# Altium footprint library PAL.PcbLib: 271 footprints (part 8 of 17)
Each footprint in its own frame and in the unit in brackets; x right, y up, seen from the top. Pads: shape width x height; smd on the part's side, far side on the other; paste and mask are expansions set on the pad; w line width, h text height; cw(c..) or ccw(c..) is an arc to the next point about the centre after c.
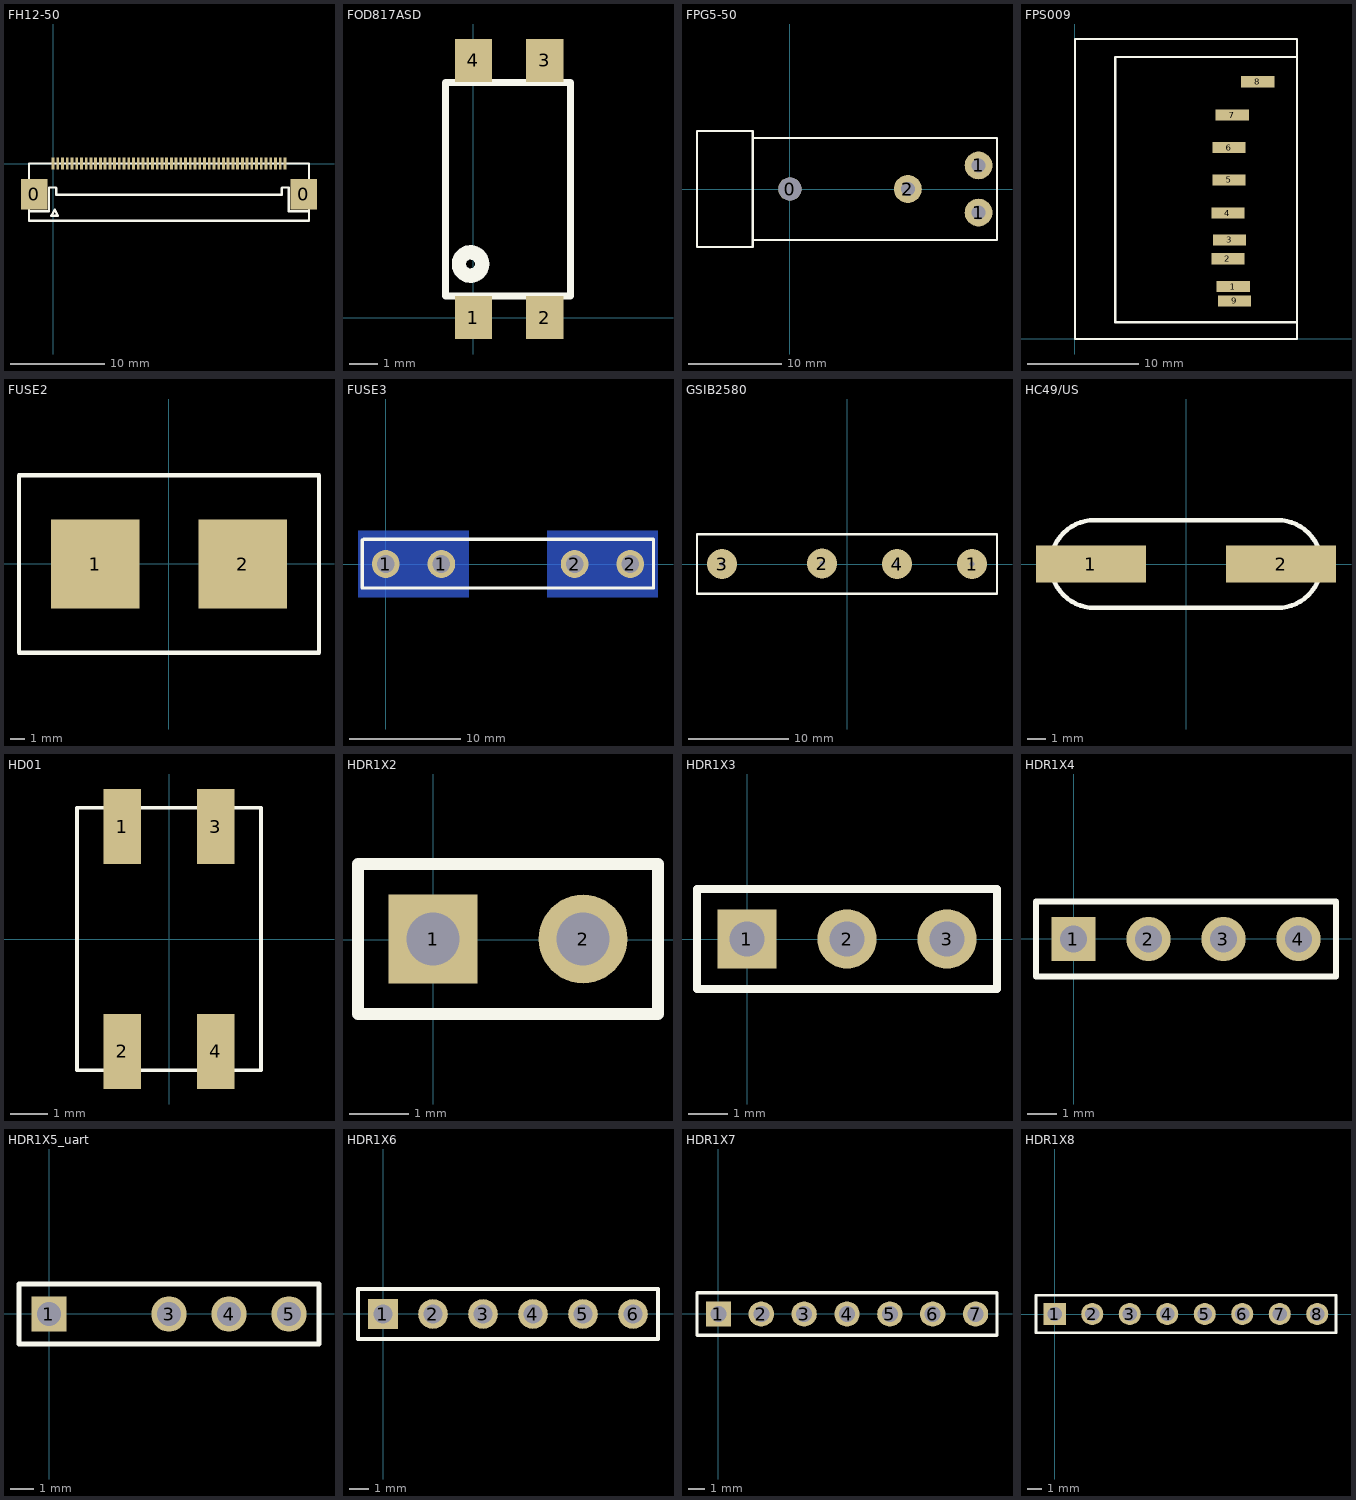
[diagram p7: the footprints below, top view; thin cyan lines are the x and y axes]

## FH12-50 [mm]
pads (52):
  rect 2.8x3.2 smd: 0(-2,-3.25) 0(26.5,-3.25)
  rect 0.3x1.3 smd: 1(0,0) 2(0.5,0) 3(1,0) 4(1.5,0) 5(2,0) 6(2.5,0) 7(3,0) 8(3.5,0) 9(4,0) 10(4.5,0) 11(5,0) 12(5.5,0) 13(6,0) 14(6.5,0) 15(7,0) 16(7.5,0) 17(8,0) 18(8.5,0) 19(9,0) 20(9.5,0) 21(10,0) 22(10.5,0) 23(11,0) 24(11.5,0) 25(12,0) 26(12.5,0) 27(13,0) 28(13.5,0) 29(14,0) 30(14.5,0) 31(15,0) 32(15.5,0) 33(16,0) 34(16.5,0) 35(17,0) 36(17.5,0) 37(18,0) 38(18.5,0) 39(19,0) 40(19.5,0) 41(20,0) 42(20.5,0) 43(21,0) 44(21.5,0) 45(22,0) 46(22.5,0) 47(23,0) 48(23.5,0) 49(24,0) 50(24.5,0)
Top Overlay:
  lines w0.25: -2.525,-5.05 -0.425,-5.05 -0.425,-2.525 0.275,-2.525 0.325,-2.575 0.325,-3.3 24.15,-3.3 24.15,-2.575 ; 24.2,-2.525 24.9,-2.525 24.9,-5.05 27,-5.05 ; -2.55,-6.025 27.05,-6.025 27.05,0 -2.55,0 -2.55,-6.025 ; -0.175,-5.5 0.5,-5.5 0.2,-4.85 -0.175,-5.5

## FOD817ASD [mm]
pads (4):
  rect 1.3x1.5 smd: 1(0,0) 2(2.5,0) 3(2.5,9) 4(0,9)
Top Overlay:
  circle w0.5: c-0.1,1.875 r0.407
  lines w0.25: -0.975,8.225 -0.975,0.75 -0.9,0.75 3.375,0.75 ; -0.95,8.225 3.325,8.225 ; 3.4,0.75 3.4,8.225

## FPG5-50 [mm]
pads (4):
  round 2.5 on Top hole 2.5: 0(0,0)
  round 3 on Top hole 1.5: 1(20.32,-2.54) 1(20.32,2.54) 2(12.7,0)
Top Overlay:
  lines w0.25: -4,-5.5 22.3,-5.5 22.3,5.5 -4,5.5 ; -10,-6.25 -10,6.25 -4,6.25 -4,-6.25 -10,-6.25

## FPS009 [mm]
pads (9):
  rect 3x1 smd: 1(14.25,4.7) 2(13.775,7.2) 3(13.925,8.9) 4(13.775,11.325) 5(13.875,14.3) 6(13.875,17.225) 7(14.175,20.15) 8(16.45,23.15) 9(14.375,3.4)
Top Overlay:
  lines w0.2: 20,1.475 3.625,1.475 3.625,25.375 20,25.375 ; 0,-0.025 0,27 20,27 20,-0.025 0,-0.025

## FUSE2 [mm]
pads (2):
  rect 6x6 smd: 1(-4.999,-0.006) 2(5.001,-0.006)
Top Overlay:
  lines w0.3: -10.159,-6.006 10.161,-6.006 10.161,5.994 -10.159,5.994 -10.159,-6.006

## FUSE3 [mm]
pads (4):
  round 2.5 on Top hole 1.6: 1(0,0) 1(5,0) 2(17,0) 2(22,0)
Bottom Layer:
  rectangle: -2.5,-3 7.5,3
  region: 24.5,3 14.5,3 14.5,-3 24.5,-3
Top Overlay:
  lines w0.3: -2.052,2.211 -2.127,2.136 -2.127,-2.139 -2.102,-2.164 24.073,-2.164 24.098,-2.139 24.098,2.236 -1.977,2.236

## GSIB2580 [mm]
pads (4):
  round 3 on Top hole 0.5: 1(12.5,0) 2(-2.5,0.05) 3(-12.5,0) 4(5,0)
Top Overlay:
  lines w0.25: -15,-3 -15,3 15,3 15,-3 -15,-3

## HC49/US [mm]
pads (2):
  rect 6x2 smd: 1(-5.2,0) 2(5.2,0)
Top Overlay:
  lines w0.254: -7.4,-0.023 ccw(c-5,0) -5,-2.4 0,-2.4 5,-2.4 ccw(c5,0) 7.4,-0.023 ; -7.4,0.023 cw(c-5,0) -5,2.4 0,2.4 5,2.4 cw(c5,0) 7.4,0.023

## HD01 [mm]
pads (4):
  rect 1x2 smd: 1(-1.25,3) 2(-1.25,-3) 3(1.25,3) 4(1.25,-3)
Top Overlay:
  lines w0.1: -2.45,-3.5 -2.45,0 -2.45,3.5 0,3.5 2.45,3.5 2.45,0 2.45,-3.5 0,-3.5 -2.45,-3.5

## HDR1X2 [mm]
pads (2):
  rect 1.5x1.5 on Top hole 0.9: 1(-0.005,0.012)
  round 1.5 on Top hole 0.9: 2(2.535,0.012)
Top Overlay:
  lines w0.2: -1.275,-1.258 3.805,-1.258 3.805,1.282 -1.275,1.282 -1.275,-1.258

## HDR1X3 [mm]
pads (3):
  rect 1.5x1.5 on Top hole 0.9: 1(-0.009,0.011)
  round 1.5 on Top hole 0.9: 2(2.531,0.011) 3(5.071,0.011)
Top Overlay:
  lines w0.2: -1.279,-1.259 -1.279,1.281 6.341,1.281 6.341,-1.259 -1.279,-1.259

## HDR1X4 [mm]
pads (4):
  rect 1.5x1.5 on Top hole 0.9: 1(-0.012,-0.011)
  round 1.5 on Top hole 0.9: 2(2.528,-0.011) 3(5.068,-0.011) 4(7.608,-0.011)
Top Overlay:
  lines w0.2: -1.282,-1.281 8.878,-1.281 8.878,1.259 -1.282,1.259 -1.282,-1.281

## HDR1X5_uart [mm]
pads (4):
  rect 1.5x1.5 on Top hole 1: 1(-0.008,-0.009)
  round 1.5 on Top hole 1: 3(5.072,-0.009) 4(7.612,-0.009) 5(10.152,-0.009)
Top Overlay:
  lines w0.2: -1.278,-1.279 11.422,-1.279 11.422,1.261 -1.278,1.261 -1.278,-1.279

## HDR1X6 [mm]
pads (6):
  rect 1.5x1.5 on Top hole 0.95: 1(-0.012,-0.008)
  round 1.5 on Top hole 0.95: 2(2.528,-0.008) 3(5.068,-0.008) 4(7.608,-0.008) 5(10.148,-0.008) 6(12.688,-0.008)
Top Overlay:
  lines w0.2: -1.282,-1.278 13.958,-1.278 13.958,1.262 -1.282,1.262 -1.282,-1.278

## HDR1X7 [mm]
pads (7):
  rect 1.5x1.5 on Top hole 0.95: 1(0,-0.008)
  round 1.5 on Top hole 0.95: 2(2.54,-0.008) 3(5.08,-0.008) 4(7.62,-0.008) 5(10.16,-0.008) 6(12.7,-0.008) 7(15.24,-0.008)
Top Overlay:
  lines w0.2: -1.27,-1.278 16.51,-1.278 16.51,1.262 -1.27,1.262 -1.27,-1.278

## HDR1X8 [mm]
pads (8):
  rect 1.5x1.5 on Top hole 0.95: 1(-0.001,0.002)
  round 1.5 on Top hole 0.95: 2(2.539,0.002) 3(5.079,0.002) 4(7.619,0.002) 5(10.159,0.002) 6(12.699,0.002) 7(15.239,0.002) 8(17.779,0.002)
Top Overlay:
  lines w0.2: -1.271,-1.268 -1.271,1.272 19.049,1.272 19.049,-1.268 -1.271,-1.268